# Altium footprint library 2220_SIDE.PcbLib: 1 footprints
Each footprint in its own frame and in the unit in brackets; x right, y up, seen from the top. Pads: shape width x height; smd on the part's side, far side on the other; paste and mask are expansions set on the pad; w line width, h text height; cw(c..) or ccw(c..) is an arc to the next point about the centre after c.
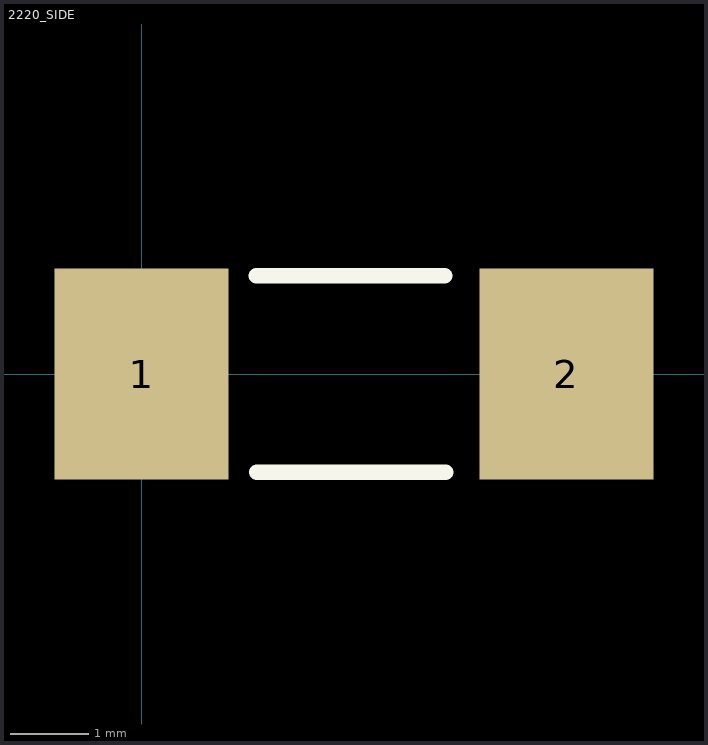
[diagram p0: the footprint, top view; thin cyan lines are the x and y axes]

## 2220_SIDE [mil]
pads (2):
  rect 87.09x106 smd: 1(0,0) 2(213.09,0)
Top Overlay:
  lines w7.87: 57.47,49.21 151.96,49.21 ; 57.93,-49.25 152.42,-49.25
3D body: height 196.85, standoff 0, extent -4.41,-50 220,48.43